# Altium schematic symbol library MCU_Microchip_SAME.SchLib: 16 symbols
Pins are listed as number, name and electrical type; pins without a type are passive.

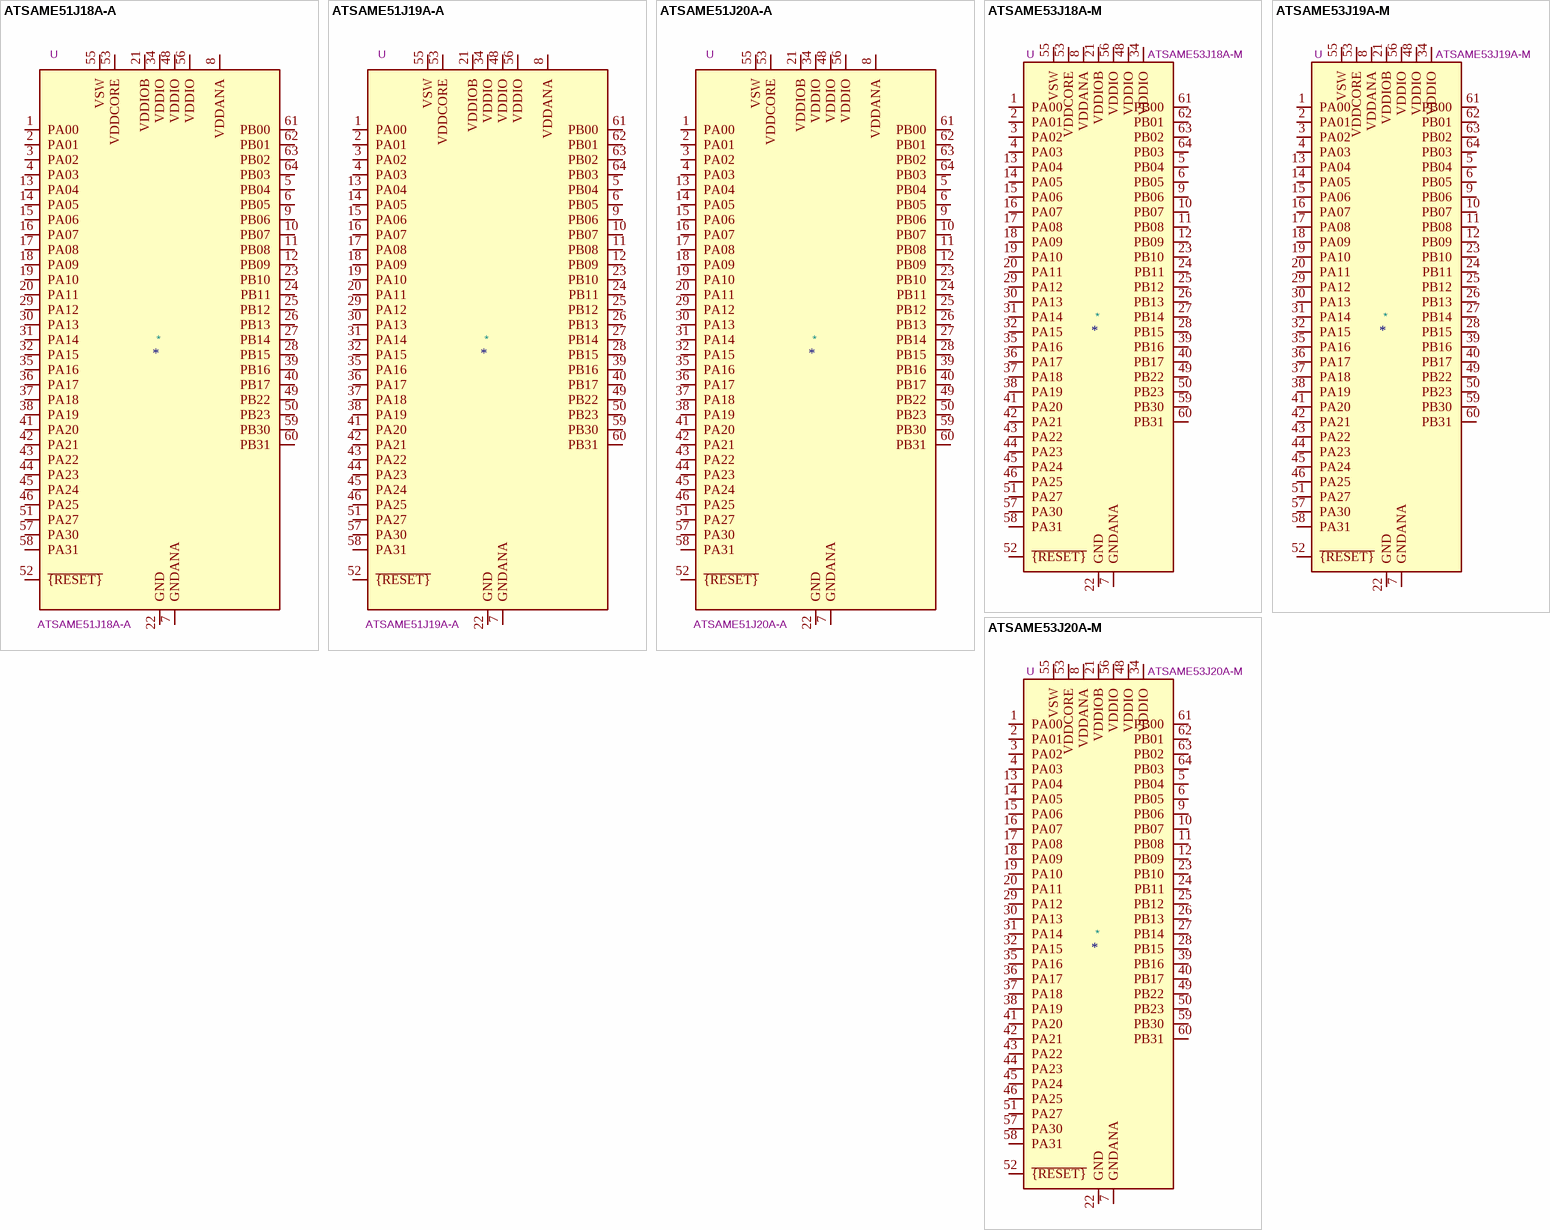
[diagram p0: symbols ATSAME51J18A-A to ATSAME53J20A-M]

## ATSAME51J18A-A
designator *  value ATSAME51J18A-A  Reference: U
ki_keywords: 32-bit ARM Cortex-M4F MCU Microcontroller; ki_description: SAM E51 Microchip SMART ARM Cortex-M4F-based MCU, 256K Flash, 128K SRAM, TQFP-64; ki_fp_filters: TQFP*10x10mm*P0.5mm*; Footprint: Package_QFP:TQFP-64_10x10mm_P0.5mm; Datasheet: http://ww1.microchip.com/downloads/en/DeviceDoc/60001507E.pdf
pins: 1 PA00, 2 PA01, 3 PA02, 4 PA03, 5 PB04, 6 PB05, 7 GNDANA, 8 VDDANA, 9 PB06, 10 PB07, 11 PB08, 12 PB09, 13 PA04, 14 PA05, 15 PA06, 16 PA07, 17 PA08, 18 PA09, 19 PA10, 20 PA11, 21 VDDIOB, 22 GND, 23 PB10, 24 PB11, 25 PB12, 26 PB13, 27 PB14, 28 PB15, 29 PA12, 30 PA13, 31 PA14, 32 PA15, 33 GND hidden, 34 VDDIO, 35 PA16, 36 PA17, 37 PA18, 38 PA19, 39 PB16, 40 PB17, 41 PA20, 42 PA21, 43 PA22, 44 PA23, 45 PA24, 46 PA25, 47 GND hidden, 48 VDDIO, 49 PB22, 50 PB23, 51 PA27, 52 ~{{RESET}}, 53 VDDCORE, 54 GND hidden, 55 VSW, 56 VDDIO, 57 PA30, 58 PA31, 59 PB30, 60 PB31, 61 PB00, 62 PB01, 63 PB02, 64 PB03

## ATSAME51J19A-A
designator *  value ATSAME51J19A-A  Reference: U
ki_keywords: 32-bit ARM Cortex-M4F MCU Microcontroller; ki_description: SAM E51 Microchip SMART ARM Cortex-M4F-based MCU, 512K Flash, 192K SRAM, TQFP-64; ki_fp_filters: TQFP*10x10mm*P0.5mm*; Footprint: Package_QFP:TQFP-64_10x10mm_P0.5mm; Datasheet: http://ww1.microchip.com/downloads/en/DeviceDoc/60001507E.pdf
pins: 1 PA00, 2 PA01, 3 PA02, 4 PA03, 5 PB04, 6 PB05, 7 GNDANA, 8 VDDANA, 9 PB06, 10 PB07, 11 PB08, 12 PB09, 13 PA04, 14 PA05, 15 PA06, 16 PA07, 17 PA08, 18 PA09, 19 PA10, 20 PA11, 21 VDDIOB, 22 GND, 23 PB10, 24 PB11, 25 PB12, 26 PB13, 27 PB14, 28 PB15, 29 PA12, 30 PA13, 31 PA14, 32 PA15, 33 GND hidden, 34 VDDIO, 35 PA16, 36 PA17, 37 PA18, 38 PA19, 39 PB16, 40 PB17, 41 PA20, 42 PA21, 43 PA22, 44 PA23, 45 PA24, 46 PA25, 47 GND hidden, 48 VDDIO, 49 PB22, 50 PB23, 51 PA27, 52 ~{{RESET}}, 53 VDDCORE, 54 GND hidden, 55 VSW, 56 VDDIO, 57 PA30, 58 PA31, 59 PB30, 60 PB31, 61 PB00, 62 PB01, 63 PB02, 64 PB03

## ATSAME51J20A-A
designator *  value ATSAME51J20A-A  Reference: U
ki_keywords: 32-bit ARM Cortex-M4F MCU Microcontroller; ki_description: SAM E51 Microchip SMART ARM Cortex-M4F-based MCU, 1024K Flash, 256K SRAM, TQFP-64; ki_fp_filters: TQFP*10x10mm*P0.5mm*; Footprint: Package_QFP:TQFP-64_10x10mm_P0.5mm; Datasheet: http://ww1.microchip.com/downloads/en/DeviceDoc/60001507E.pdf
pins: 1 PA00, 2 PA01, 3 PA02, 4 PA03, 5 PB04, 6 PB05, 7 GNDANA, 8 VDDANA, 9 PB06, 10 PB07, 11 PB08, 12 PB09, 13 PA04, 14 PA05, 15 PA06, 16 PA07, 17 PA08, 18 PA09, 19 PA10, 20 PA11, 21 VDDIOB, 22 GND, 23 PB10, 24 PB11, 25 PB12, 26 PB13, 27 PB14, 28 PB15, 29 PA12, 30 PA13, 31 PA14, 32 PA15, 33 GND hidden, 34 VDDIO, 35 PA16, 36 PA17, 37 PA18, 38 PA19, 39 PB16, 40 PB17, 41 PA20, 42 PA21, 43 PA22, 44 PA23, 45 PA24, 46 PA25, 47 GND hidden, 48 VDDIO, 49 PB22, 50 PB23, 51 PA27, 52 ~{{RESET}}, 53 VDDCORE, 54 GND hidden, 55 VSW, 56 VDDIO, 57 PA30, 58 PA31, 59 PB30, 60 PB31, 61 PB00, 62 PB01, 63 PB02, 64 PB03

## ATSAME53J18A-M
designator *  value ATSAME53J18A-M  Reference: U
ki_keywords: 32-bit ARM Cortex-M4F MCU Microcontroller; ki_description: SAM E53 Microchip SMART ARM Cortex-M4F based MCU, 256K Flash, 128K SRAM, QFN-64; ki_fp_filters: QFN*1EP*9x9mm*P0.5mm*; Footprint: Package_DFN_QFN:QFN-64-1EP_9x9mm_P0.5mm_EP4.7x4.7mm; Datasheet: http://ww1.microchip.com/downloads/en/DeviceDoc/60001507E.pdf
pins: 1 PA00, 2 PA01, 3 PA02, 4 PA03, 5 PB04, 6 PB05, 7 GNDANA, 8 VDDANA, 9 PB06, 10 PB07, 11 PB08, 12 PB09, 13 PA04, 14 PA05, 15 PA06, 16 PA07, 17 PA08, 18 PA09, 19 PA10, 20 PA11, 21 VDDIOB, 22 GND, 23 PB10, 24 PB11, 25 PB12, 26 PB13, 27 PB14, 28 PB15, 29 PA12, 30 PA13, 31 PA14, 32 PA15, 33 GND hidden, 34 VDDIO, 35 PA16, 36 PA17, 37 PA18, 38 PA19, 39 PB16, 40 PB17, 41 PA20, 42 PA21, 43 PA22, 44 PA23, 45 PA24, 46 PA25, 47 GND hidden, 48 VDDIO, 49 PB22, 50 PB23, 51 PA27, 52 ~{{RESET}}, 53 VDDCORE, 54 GND hidden, 55 VSW, 56 VDDIO, 57 PA30, 58 PA31, 59 PB30, 60 PB31, 61 PB00, 62 PB01, 63 PB02, 64 PB03, 65 GND hidden

## ATSAME53J19A-M
designator *  value ATSAME53J19A-M  Reference: U
ki_keywords: 32-bit ARM Cortex-M4F MCU Microcontroller; ki_description: SAM E53 Microchip SMART ARM Cortex-M4F based MCU, 512K Flash, 128K SRAM, QFN-64; ki_fp_filters: QFN*1EP*9x9mm*P0.5mm*; Footprint: Package_DFN_QFN:QFN-64-1EP_9x9mm_P0.5mm_EP4.7x4.7mm; Datasheet: http://ww1.microchip.com/downloads/en/DeviceDoc/60001507E.pdf
pins: 1 PA00, 2 PA01, 3 PA02, 4 PA03, 5 PB04, 6 PB05, 7 GNDANA, 8 VDDANA, 9 PB06, 10 PB07, 11 PB08, 12 PB09, 13 PA04, 14 PA05, 15 PA06, 16 PA07, 17 PA08, 18 PA09, 19 PA10, 20 PA11, 21 VDDIOB, 22 GND, 23 PB10, 24 PB11, 25 PB12, 26 PB13, 27 PB14, 28 PB15, 29 PA12, 30 PA13, 31 PA14, 32 PA15, 33 GND hidden, 34 VDDIO, 35 PA16, 36 PA17, 37 PA18, 38 PA19, 39 PB16, 40 PB17, 41 PA20, 42 PA21, 43 PA22, 44 PA23, 45 PA24, 46 PA25, 47 GND hidden, 48 VDDIO, 49 PB22, 50 PB23, 51 PA27, 52 ~{{RESET}}, 53 VDDCORE, 54 GND hidden, 55 VSW, 56 VDDIO, 57 PA30, 58 PA31, 59 PB30, 60 PB31, 61 PB00, 62 PB01, 63 PB02, 64 PB03, 65 GND hidden

## ATSAME53J20A-M
designator *  value ATSAME53J20A-M  Reference: U
ki_keywords: 32-bit ARM Cortex-M4F MCU Microcontroller; ki_description: SAM E53 Microchip SMART ARM Cortex-M4F based MCU, 1024K Flash, 128K SRAM, QFN-64; ki_fp_filters: QFN*1EP*9x9mm*P0.5mm*; Footprint: Package_DFN_QFN:QFN-64-1EP_9x9mm_P0.5mm_EP4.7x4.7mm; Datasheet: http://ww1.microchip.com/downloads/en/DeviceDoc/60001507E.pdf
pins: 1 PA00, 2 PA01, 3 PA02, 4 PA03, 5 PB04, 6 PB05, 7 GNDANA, 8 VDDANA, 9 PB06, 10 PB07, 11 PB08, 12 PB09, 13 PA04, 14 PA05, 15 PA06, 16 PA07, 17 PA08, 18 PA09, 19 PA10, 20 PA11, 21 VDDIOB, 22 GND, 23 PB10, 24 PB11, 25 PB12, 26 PB13, 27 PB14, 28 PB15, 29 PA12, 30 PA13, 31 PA14, 32 PA15, 33 GND hidden, 34 VDDIO, 35 PA16, 36 PA17, 37 PA18, 38 PA19, 39 PB16, 40 PB17, 41 PA20, 42 PA21, 43 PA22, 44 PA23, 45 PA24, 46 PA25, 47 GND hidden, 48 VDDIO, 49 PB22, 50 PB23, 51 PA27, 52 ~{{RESET}}, 53 VDDCORE, 54 GND hidden, 55 VSW, 56 VDDIO, 57 PA30, 58 PA31, 59 PB30, 60 PB31, 61 PB00, 62 PB01, 63 PB02, 64 PB03, 65 GND hidden

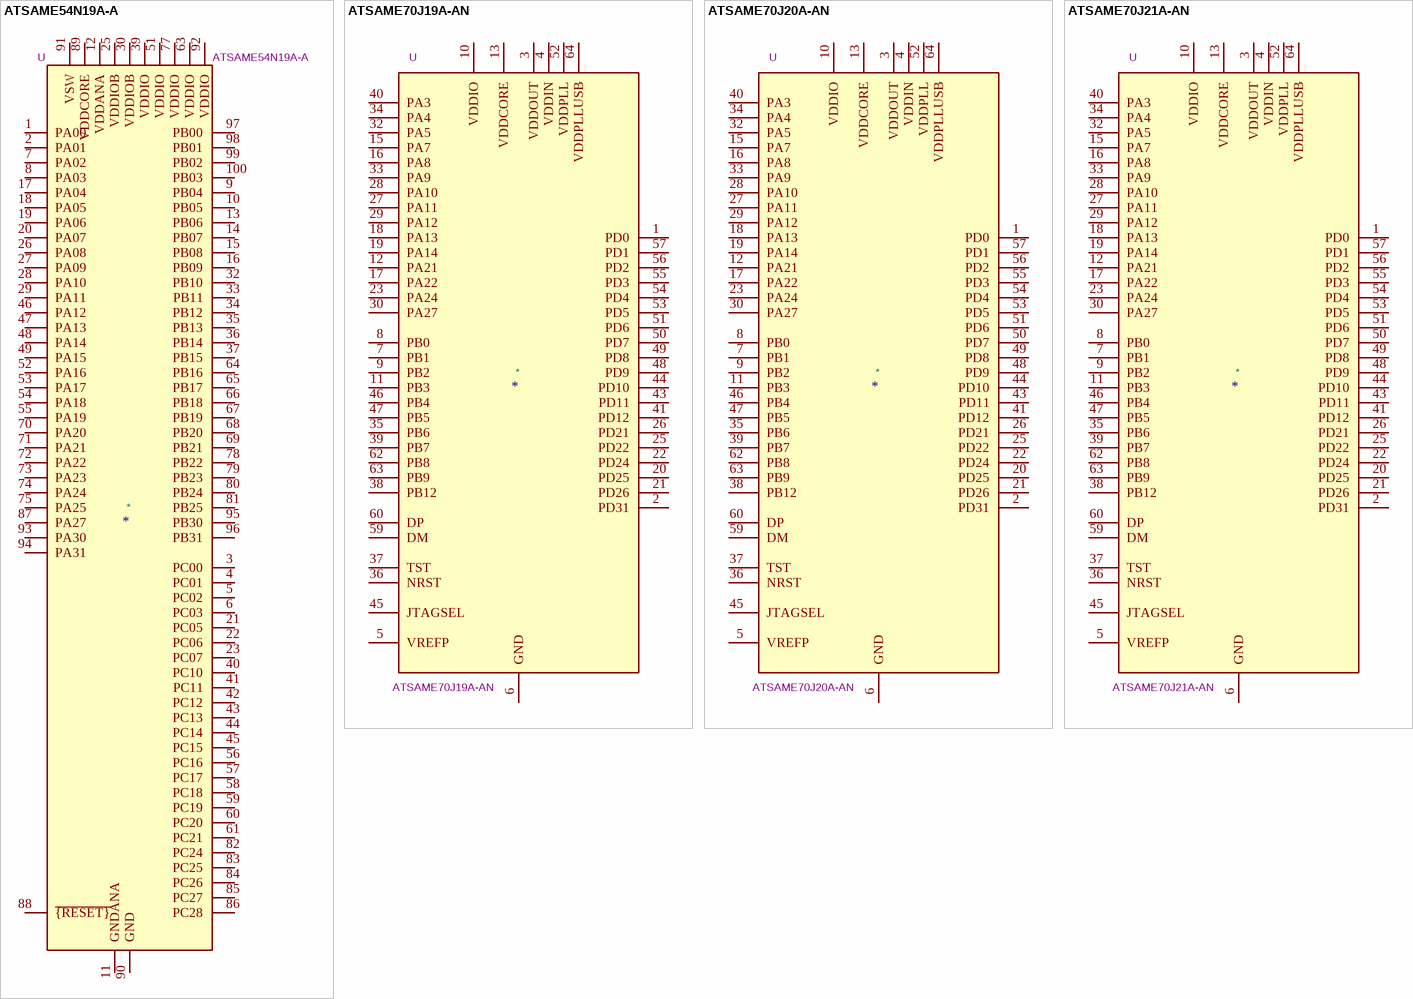
[diagram p1: symbols ATSAME54N19A-A to ATSAME70J21A-AN]

## ATSAME54N19A-A
designator *  value ATSAME54N19A-A  Reference: U
ki_keywords: 32-bit ARM Cortex-M4F MCU Microcontroller; ki_description: SAM E54 Microchip SMART ARM Cortex-M4F based MCU, 512K Flash, 192K SRAM, TQFP-100; ki_fp_filters: TQFP*14x14mm*P0.5mm*; Footprint: Package_QFP:TQFP-100_14x14mm_P0.5mm; Datasheet: http://ww1.microchip.com/downloads/en/DeviceDoc/60001507E.pdf
pins: 1 PA00, 2 PA01, 3 PC00, 4 PC01, 5 PC02, 6 PC03, 7 PA02, 8 PA03, 9 PB04, 10 PB05, 11 GNDANA, 12 VDDANA, 13 PB06, 14 PB07, 15 PB08, 16 PB09, 17 PA04, 18 PA05, 19 PA06, 20 PA07, 21 PC05, 22 PC06, 23 PC07, 24 GND hidden, 25 VDDIOB, 26 PA08, 27 PA09, 28 PA10, 29 PA11, 30 VDDIOB, 31 GND hidden, 32 PB10, 33 PB11, 34 PB12, 35 PB13, 36 PB14, 37 PB15, 38 GND hidden, 39 VDDIO, 40 PC10, 41 PC11, 42 PC12, 43 PC13, 44 PC14, 45 PC15, 46 PA12, 47 PA13, 48 PA14, 49 PA15, 50 GND hidden, 51 VDDIO, 52 PA16, 53 PA17, 54 PA18, 55 PA19, 56 PC16, 57 PC17, 58 PC18, 59 PC19, 60 PC20, 61 PC21, 62 GND hidden, 63 VDDIO, 64 PB16, 65 PB17, 66 PB18, 67 PB19, 68 PB20, 69 PB21, 70 PA20, 71 PA21, 72 PA22, 73 PA23, 74 PA24, 75 PA25, 76 GND hidden, 77 VDDIO, 78 PB22, 79 PB23, 80 PB24, 81 PB25, 82 PC24, 83 PC25, 84 PC26, 85 PC27, 86 PC28, 87 PA27, 88 ~{{RESET}}, 89 VDDCORE, 90 GND, 91 VSW, 92 VDDIO, 93 PA30, 94 PA31, 95 PB30, 96 PB31, 97 PB00, 98 PB01, 99 PB02, 100 PB03

## ATSAME70J19A-AN
designator *  value ATSAME70J19A-AN  Reference: U
ki_keywords: 32-bit ARM Cortex-M7 MCU Microcontroller; ki_description: SAM E70 Microchip SMART ARM Cortex-M7-based MCU, 2048K Flash, 384K SRAM, LQFP64; ki_fp_filters: LQFP*10x10mm*P0.5mm*; Footprint: Package_QFP:LQFP-64_10x10mm_P0.5mm; Datasheet: http://ww1.microchip.com/downloads/en/DeviceDoc/SAM-E70-S70-V70-V71-Family-Data-Sheet-DS60001527D.pdf
pins: 1 PD0, 2 PD31, 3 VDDOUT, 4 VDDIN, 5 VREFP, 6 GND, 7 PB1, 8 PB0, 9 PB2, 10 VDDIO, 11 PB3, 12 PA21, 13 VDDCORE, 14 GND hidden, 15 PA7, 16 PA8, 17 PA22, 18 PA13, 19 PA14, 20 PD25, 21 PD26, 22 PD24, 23 PA24, 24 VDDCORE hidden, 25 PD22, 26 PD21, 27 PA11, 28 PA10, 29 PA12, 30 PA27, 31 GND hidden, 32 PA5, 33 PA9, 34 PA4, 35 PB6, 36 NRST, 37 TST, 38 PB12, 39 PB7, 40 PA3, 41 PD12, 42 VDDIO hidden, 43 PD11, 44 PD10, 45 JTAGSEL, 46 PB4, 47 PB5, 48 PD9, 49 PD8, 50 PD7, 51 PD6, 52 VDDPLL, 53 PD5, 54 PD4, 55 PD3, 56 PD2, 57 PD1, 58 VDDIO hidden, 59 DM, 60 DP, 61 VDDCORE hidden, 62 PB8, 63 PB9, 64 VDDPLLUSB

## ATSAME70J20A-AN
designator *  value ATSAME70J20A-AN  Reference: U
ki_keywords: 32-bit ARM Cortex-M7 MCU Microcontroller; ki_description: SAM E70 Microchip SMART ARM Cortex-M7-based MCU, 512K Flash, 384K SRAM, LQFP64; ki_fp_filters: LQFP*10x10mm*P0.5mm*; Footprint: Package_QFP:LQFP-64_10x10mm_P0.5mm; Datasheet: http://ww1.microchip.com/downloads/en/DeviceDoc/SAM-E70-S70-V70-V71-Family-Data-Sheet-DS60001527D.pdf
pins: 1 PD0, 2 PD31, 3 VDDOUT, 4 VDDIN, 5 VREFP, 6 GND, 7 PB1, 8 PB0, 9 PB2, 10 VDDIO, 11 PB3, 12 PA21, 13 VDDCORE, 14 GND hidden, 15 PA7, 16 PA8, 17 PA22, 18 PA13, 19 PA14, 20 PD25, 21 PD26, 22 PD24, 23 PA24, 24 VDDCORE hidden, 25 PD22, 26 PD21, 27 PA11, 28 PA10, 29 PA12, 30 PA27, 31 GND hidden, 32 PA5, 33 PA9, 34 PA4, 35 PB6, 36 NRST, 37 TST, 38 PB12, 39 PB7, 40 PA3, 41 PD12, 42 VDDIO hidden, 43 PD11, 44 PD10, 45 JTAGSEL, 46 PB4, 47 PB5, 48 PD9, 49 PD8, 50 PD7, 51 PD6, 52 VDDPLL, 53 PD5, 54 PD4, 55 PD3, 56 PD2, 57 PD1, 58 VDDIO hidden, 59 DM, 60 DP, 61 VDDCORE hidden, 62 PB8, 63 PB9, 64 VDDPLLUSB

## ATSAME70J21A-AN
designator *  value ATSAME70J21A-AN  Reference: U
ki_keywords: 32-bit ARM Cortex-M7 MCU Microcontroller; ki_description: SAM E70 Microchip SMART ARM Cortex-M7-based MCU, 2048K Flash, 384K SRAM, LQFP64; ki_fp_filters: LQFP*10x10mm*P0.5mm*; Footprint: Package_QFP:LQFP-64_10x10mm_P0.5mm; Datasheet: http://ww1.microchip.com/downloads/en/DeviceDoc/SAM-E70-S70-V70-V71-Family-Data-Sheet-DS60001527D.pdf
pins: 1 PD0, 2 PD31, 3 VDDOUT, 4 VDDIN, 5 VREFP, 6 GND, 7 PB1, 8 PB0, 9 PB2, 10 VDDIO, 11 PB3, 12 PA21, 13 VDDCORE, 14 GND hidden, 15 PA7, 16 PA8, 17 PA22, 18 PA13, 19 PA14, 20 PD25, 21 PD26, 22 PD24, 23 PA24, 24 VDDCORE hidden, 25 PD22, 26 PD21, 27 PA11, 28 PA10, 29 PA12, 30 PA27, 31 GND hidden, 32 PA5, 33 PA9, 34 PA4, 35 PB6, 36 NRST, 37 TST, 38 PB12, 39 PB7, 40 PA3, 41 PD12, 42 VDDIO hidden, 43 PD11, 44 PD10, 45 JTAGSEL, 46 PB4, 47 PB5, 48 PD9, 49 PD8, 50 PD7, 51 PD6, 52 VDDPLL, 53 PD5, 54 PD4, 55 PD3, 56 PD2, 57 PD1, 58 VDDIO hidden, 59 DM, 60 DP, 61 VDDCORE hidden, 62 PB8, 63 PB9, 64 VDDPLLUSB

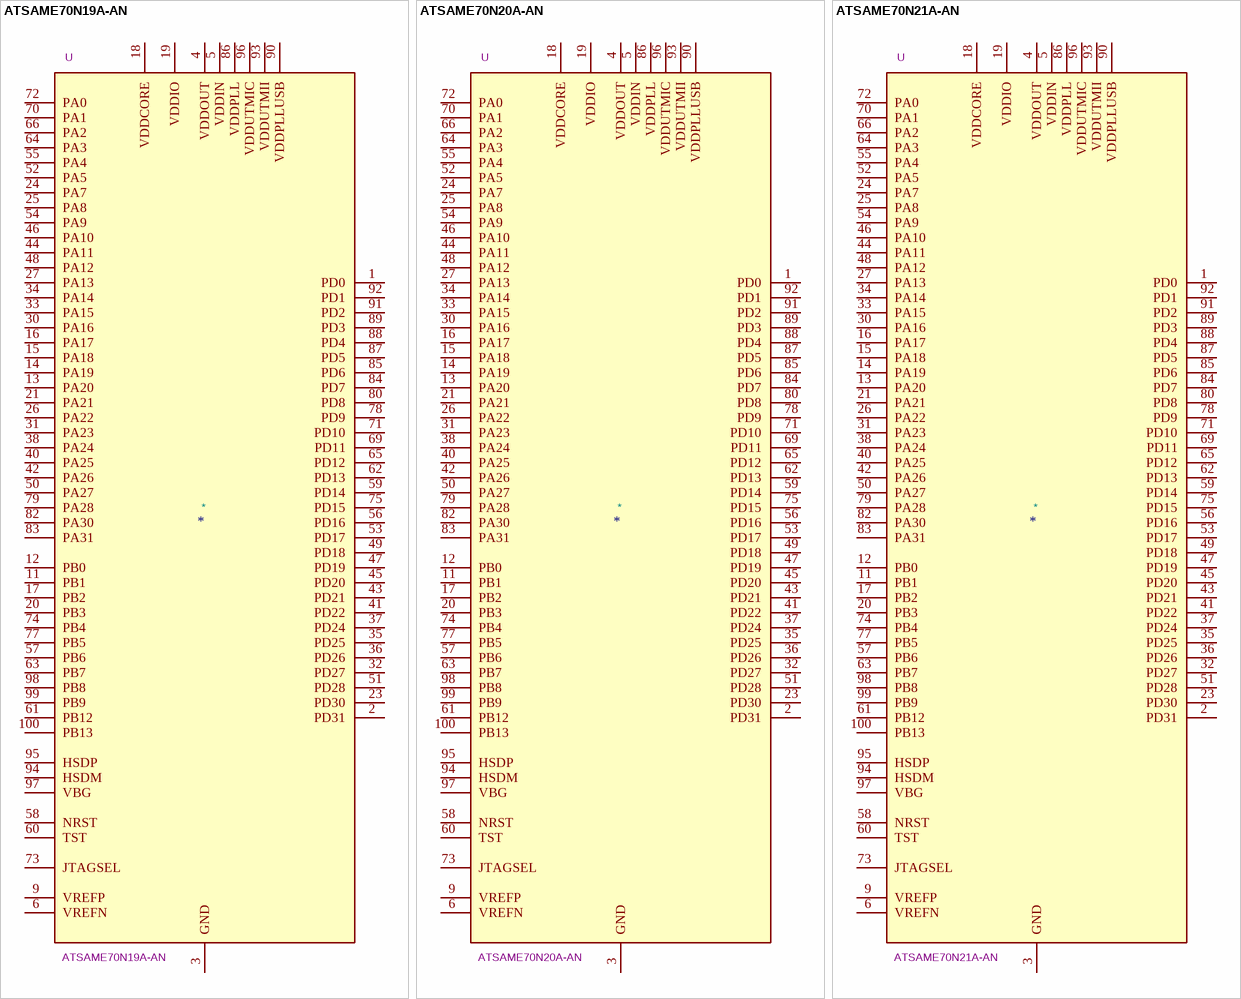
[diagram p2: symbols ATSAME70N19A-AN to ATSAME70N21A-AN]

## ATSAME70N19A-AN
designator *  value ATSAME70N19A-AN  Reference: U
ki_keywords: 32-bit ARM Cortex-M7 MCU Microcontroller; ki_description: SAM E70 Microchip SMART ARM Cortex-M7-based MCU, 512K Flash, 256K SRAM, LQFP100; ki_fp_filters: LQFP*14x14mm*P0.5mm*; Footprint: Package_QFP:LQFP-100_14x14mm_P0.5mm; Datasheet: http://ww1.microchip.com/downloads/en/DeviceDoc/SAM-E70-S70-V70-V71-Family-Data-Sheet-DS60001527D.pdf
pins: 1 PD0, 2 PD31, 3 GND, 4 VDDOUT, 5 VDDIN, 6 VREFN, 7 GND hidden, 8 GND hidden, 9 VREFP, 10 GND hidden, 11 PB1, 12 PB0, 13 PA20, 14 PA19, 15 PA18, 16 PA17, 17 PB2, 18 VDDCORE, 19 VDDIO, 20 PB3, 21 PA21, 22 VDDCORE hidden, 23 PD30, 24 PA7, 25 PA8, 26 PA22, 27 PA13, 28 VDDIO hidden, 29 GND hidden, 30 PA16, 31 PA23, 32 PD27, 33 PA15, 34 PA14, 35 PD25, 36 PD26, 37 PD24, 38 PA24, 39 VDDCORE hidden, 40 PA25, 41 PD22, 42 PA26, 43 PD21, 44 PA11, 45 PD20, 46 PA10, 47 PD19, 48 PA12, 49 PD18, 50 PA27, 51 PD28, 52 PA5, 53 PD17, 54 PA9, 55 PA4, 56 PD16, 57 PB6, 58 NRST, 59 PD14, 60 TST, 61 PB12, 62 PD13, 63 PB7, 64 PA3, 65 PD12, 66 PA2, 67 GND hidden, 68 VDDIO hidden, 69 PD11, 70 PA1, 71 PD10, 72 PA0, 73 JTAGSEL, 74 PB4, 75 PD15, 76 VDDCORE hidden, 77 PB5, 78 PD9, 79 PA28, 80 PD8, 81 VDDIO hidden, 82 PA30, 83 PA31, 84 PD7, 85 PD6, 86 VDDPLL, 87 PD5, 88 PD4, 89 PD3, 90 VDDPLLUSB, 91 PD2, 92 PD1, 93 VDDUTMII, 94 HSDM, 95 HSDP, 96 VDDUTMIC, 97 VBG, 98 PB8, 99 PB9, 100 PB13

## ATSAME70N20A-AN
designator *  value ATSAME70N20A-AN  Reference: U
ki_keywords: 32-bit ARM Cortex-M7 MCU Microcontroller; ki_description: SAM E70 Microchip SMART ARM Cortex-M7-based MCU, 1024K Flash, 384K SRAM, LQFP100; ki_fp_filters: LQFP*14x14mm*P0.5mm*; Footprint: Package_QFP:LQFP-100_14x14mm_P0.5mm; Datasheet: http://ww1.microchip.com/downloads/en/DeviceDoc/SAM-E70-S70-V70-V71-Family-Data-Sheet-DS60001527D.pdf
pins: 1 PD0, 2 PD31, 3 GND, 4 VDDOUT, 5 VDDIN, 6 VREFN, 7 GND hidden, 8 GND hidden, 9 VREFP, 10 GND hidden, 11 PB1, 12 PB0, 13 PA20, 14 PA19, 15 PA18, 16 PA17, 17 PB2, 18 VDDCORE, 19 VDDIO, 20 PB3, 21 PA21, 22 VDDCORE hidden, 23 PD30, 24 PA7, 25 PA8, 26 PA22, 27 PA13, 28 VDDIO hidden, 29 GND hidden, 30 PA16, 31 PA23, 32 PD27, 33 PA15, 34 PA14, 35 PD25, 36 PD26, 37 PD24, 38 PA24, 39 VDDCORE hidden, 40 PA25, 41 PD22, 42 PA26, 43 PD21, 44 PA11, 45 PD20, 46 PA10, 47 PD19, 48 PA12, 49 PD18, 50 PA27, 51 PD28, 52 PA5, 53 PD17, 54 PA9, 55 PA4, 56 PD16, 57 PB6, 58 NRST, 59 PD14, 60 TST, 61 PB12, 62 PD13, 63 PB7, 64 PA3, 65 PD12, 66 PA2, 67 GND hidden, 68 VDDIO hidden, 69 PD11, 70 PA1, 71 PD10, 72 PA0, 73 JTAGSEL, 74 PB4, 75 PD15, 76 VDDCORE hidden, 77 PB5, 78 PD9, 79 PA28, 80 PD8, 81 VDDIO hidden, 82 PA30, 83 PA31, 84 PD7, 85 PD6, 86 VDDPLL, 87 PD5, 88 PD4, 89 PD3, 90 VDDPLLUSB, 91 PD2, 92 PD1, 93 VDDUTMII, 94 HSDM, 95 HSDP, 96 VDDUTMIC, 97 VBG, 98 PB8, 99 PB9, 100 PB13

## ATSAME70N21A-AN
designator *  value ATSAME70N21A-AN  Reference: U
ki_keywords: 32-bit ARM Cortex-M7 MCU Microcontroller; ki_description: SAM E70 Microchip SMART ARM Cortex-M7-based MCU, 2048K Flash, 384K SRAM, LQFP100; ki_fp_filters: LQFP*14x14mm*P0.5mm*; Footprint: Package_QFP:LQFP-100_14x14mm_P0.5mm; Datasheet: http://ww1.microchip.com/downloads/en/DeviceDoc/SAM-E70-S70-V70-V71-Family-Data-Sheet-DS60001527D.pdf
pins: 1 PD0, 2 PD31, 3 GND, 4 VDDOUT, 5 VDDIN, 6 VREFN, 7 GND hidden, 8 GND hidden, 9 VREFP, 10 GND hidden, 11 PB1, 12 PB0, 13 PA20, 14 PA19, 15 PA18, 16 PA17, 17 PB2, 18 VDDCORE, 19 VDDIO, 20 PB3, 21 PA21, 22 VDDCORE hidden, 23 PD30, 24 PA7, 25 PA8, 26 PA22, 27 PA13, 28 VDDIO hidden, 29 GND hidden, 30 PA16, 31 PA23, 32 PD27, 33 PA15, 34 PA14, 35 PD25, 36 PD26, 37 PD24, 38 PA24, 39 VDDCORE hidden, 40 PA25, 41 PD22, 42 PA26, 43 PD21, 44 PA11, 45 PD20, 46 PA10, 47 PD19, 48 PA12, 49 PD18, 50 PA27, 51 PD28, 52 PA5, 53 PD17, 54 PA9, 55 PA4, 56 PD16, 57 PB6, 58 NRST, 59 PD14, 60 TST, 61 PB12, 62 PD13, 63 PB7, 64 PA3, 65 PD12, 66 PA2, 67 GND hidden, 68 VDDIO hidden, 69 PD11, 70 PA1, 71 PD10, 72 PA0, 73 JTAGSEL, 74 PB4, 75 PD15, 76 VDDCORE hidden, 77 PB5, 78 PD9, 79 PA28, 80 PD8, 81 VDDIO hidden, 82 PA30, 83 PA31, 84 PD7, 85 PD6, 86 VDDPLL, 87 PD5, 88 PD4, 89 PD3, 90 VDDPLLUSB, 91 PD2, 92 PD1, 93 VDDUTMII, 94 HSDM, 95 HSDP, 96 VDDUTMIC, 97 VBG, 98 PB8, 99 PB9, 100 PB13

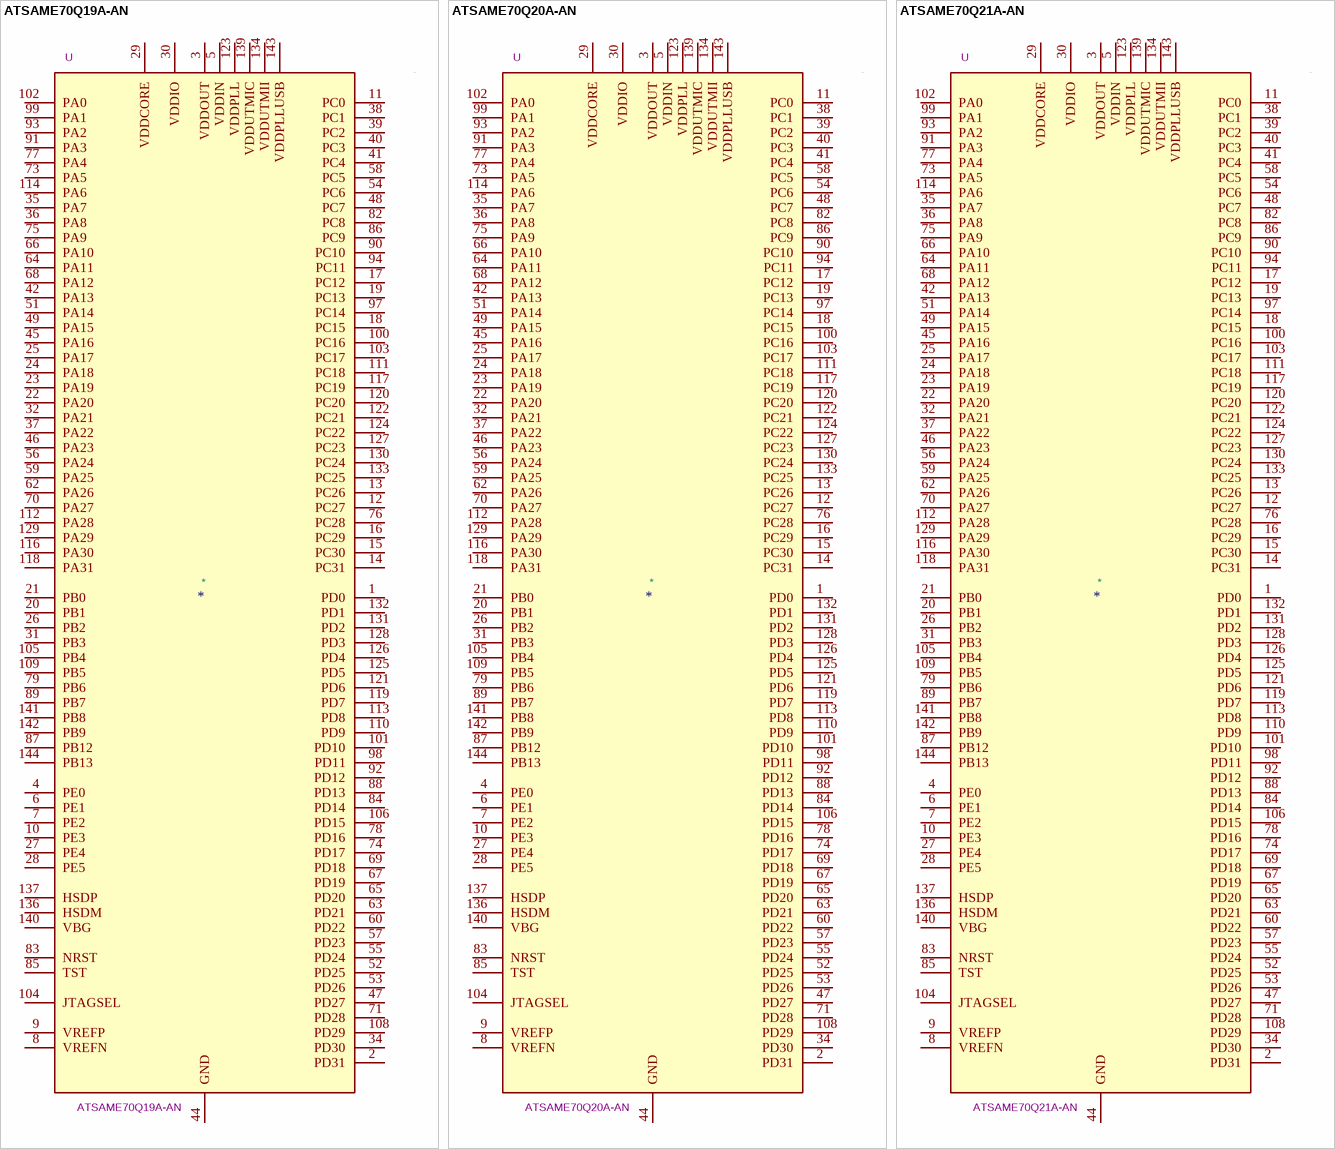
[diagram p3: symbols ATSAME70Q19A-AN to ATSAME70Q21A-AN]

## ATSAME70Q19A-AN
designator *  value ATSAME70Q19A-AN  Reference: U
ki_keywords: 32-bit ARM Cortex-M7 MCU Microcontroller; ki_description: SAM E70 Microchip SMART ARM Cortex-M7-based MCU, 512K Flash, 256K SRAM, LQFP144; ki_fp_filters: LQFP*20x20mm*P0.5mm*; Footprint: Package_QFP:LQFP-144_20x20mm_P0.5mm; Datasheet: http://ww1.microchip.com/downloads/en/DeviceDoc/SAM-E70-S70-V70-V71-Family-Data-Sheet-DS60001527D.pdf
pins: 1 PD0, 2 PD31, 3 VDDOUT, 4 PE0, 5 VDDIN, 6 PE1, 7 PE2, 8 VREFN, 9 VREFP, 10 PE3, 11 PC0, 12 PC27, 13 PC26, 14 PC31, 15 PC30, 16 PC29, 17 PC12, 18 PC15, 19 PC13, 20 PB1, 21 PB0, 22 PA20, 23 PA19, 24 PA18, 25 PA17, 26 PB2, 27 PE4, 28 PE5, 29 VDDCORE, 30 VDDIO, 31 PB3, 32 PA21, 33 VDDCORE hidden, 34 PD30, 35 PA7, 36 PA8, 37 PA22, 38 PC1, 39 PC2, 40 PC3, 41 PC4, 42 PA13, 43 VDDIO hidden, 44 GND, 45 PA16, 46 PA23, 47 PD27, 48 PC7, 49 PA15, 50 VDDCORE hidden, 51 PA14, 52 PD25, 53 PD26, 54 PC6, 55 PD24, 56 PA24, 57 PD23, 58 PC5, 59 PA25, 60 PD22, 61 GND hidden, 62 PA26, 63 PD21, 64 PA11, 65 PD20, 66 PA10, 67 PD19, 68 PA12, 69 PD18, 70 PA27, 71 PD28, 72 VDDIO hidden, 73 PA5, 74 PD17, 75 PA9, 76 PC28, 77 PA4, 78 PD16, 79 PB6, 80 VDDIO hidden, 81 VDDCORE hidden, 82 PC8, 83 NRST, 84 PD14, 85 TST, 86 PC9, 87 PB12, 88 PD13, 89 PB7, 90 PC10, 91 PA3, 92 PD12, 93 PA2, 94 PC11, 95 GND hidden, 96 VDDIO hidden, 97 PC14, 98 PD11, 99 PA1, 100 PC16, 101 PD10, 102 PA0, 103 PC17, 104 JTAGSEL, 105 PB4, 106 PD15, 107 VDDCORE hidden, 108 PD29, 109 PB5, 110 PD9, 111 PC18, 112 PA28, 113 PD8, 114 PA6, 115 GND hidden, 116 PA30, 117 PC19, 118 PA31, 119 PD7, 120 PC20, 121 PD6, 122 PC21, 123 VDDPLL, 124 PC22, 125 PD5, 126 PD4, 127 PC23, 128 PD3, 129 PA29, 130 PC24, 131 PD2, 132 PD1, 133 PC25, 134 VDDUTMII, 135 GND hidden, 136 HSDM, 137 HSDP, 138 GND hidden, 139 VDDUTMIC, 140 VBG, 141 PB8, 142 PB9, 143 VDDPLLUSB, 144 PB13

## ATSAME70Q20A-AN
designator *  value ATSAME70Q20A-AN  Reference: U
ki_keywords: 32-bit ARM Cortex-M7 MCU Microcontroller; ki_description: SAM E70 Microchip SMART ARM Cortex-M7-based MCU, 1024K Flash, 384K SRAM, LQFP144; ki_fp_filters: LQFP*20x20mm*P0.5mm*; Footprint: Package_QFP:LQFP-144_20x20mm_P0.5mm; Datasheet: http://ww1.microchip.com/downloads/en/DeviceDoc/SAM-E70-S70-V70-V71-Family-Data-Sheet-DS60001527D.pdf
pins: 1 PD0, 2 PD31, 3 VDDOUT, 4 PE0, 5 VDDIN, 6 PE1, 7 PE2, 8 VREFN, 9 VREFP, 10 PE3, 11 PC0, 12 PC27, 13 PC26, 14 PC31, 15 PC30, 16 PC29, 17 PC12, 18 PC15, 19 PC13, 20 PB1, 21 PB0, 22 PA20, 23 PA19, 24 PA18, 25 PA17, 26 PB2, 27 PE4, 28 PE5, 29 VDDCORE, 30 VDDIO, 31 PB3, 32 PA21, 33 VDDCORE hidden, 34 PD30, 35 PA7, 36 PA8, 37 PA22, 38 PC1, 39 PC2, 40 PC3, 41 PC4, 42 PA13, 43 VDDIO hidden, 44 GND, 45 PA16, 46 PA23, 47 PD27, 48 PC7, 49 PA15, 50 VDDCORE hidden, 51 PA14, 52 PD25, 53 PD26, 54 PC6, 55 PD24, 56 PA24, 57 PD23, 58 PC5, 59 PA25, 60 PD22, 61 GND hidden, 62 PA26, 63 PD21, 64 PA11, 65 PD20, 66 PA10, 67 PD19, 68 PA12, 69 PD18, 70 PA27, 71 PD28, 72 VDDIO hidden, 73 PA5, 74 PD17, 75 PA9, 76 PC28, 77 PA4, 78 PD16, 79 PB6, 80 VDDIO hidden, 81 VDDCORE hidden, 82 PC8, 83 NRST, 84 PD14, 85 TST, 86 PC9, 87 PB12, 88 PD13, 89 PB7, 90 PC10, 91 PA3, 92 PD12, 93 PA2, 94 PC11, 95 GND hidden, 96 VDDIO hidden, 97 PC14, 98 PD11, 99 PA1, 100 PC16, 101 PD10, 102 PA0, 103 PC17, 104 JTAGSEL, 105 PB4, 106 PD15, 107 VDDCORE hidden, 108 PD29, 109 PB5, 110 PD9, 111 PC18, 112 PA28, 113 PD8, 114 PA6, 115 GND hidden, 116 PA30, 117 PC19, 118 PA31, 119 PD7, 120 PC20, 121 PD6, 122 PC21, 123 VDDPLL, 124 PC22, 125 PD5, 126 PD4, 127 PC23, 128 PD3, 129 PA29, 130 PC24, 131 PD2, 132 PD1, 133 PC25, 134 VDDUTMII, 135 GND hidden, 136 HSDM, 137 HSDP, 138 GND hidden, 139 VDDUTMIC, 140 VBG, 141 PB8, 142 PB9, 143 VDDPLLUSB, 144 PB13

## ATSAME70Q21A-AN
designator *  value ATSAME70Q21A-AN  Reference: U
ki_keywords: 32-bit ARM Cortex-M7 MCU Microcontroller; ki_description: SAM E70 Microchip SMART ARM Cortex-M7-based MCU, 2048K Flash, 384K SRAM, LQFP144; ki_fp_filters: LQFP*20x20mm*P0.5mm*; Footprint: Package_QFP:LQFP-144_20x20mm_P0.5mm; Datasheet: http://ww1.microchip.com/downloads/en/DeviceDoc/SAM-E70-S70-V70-V71-Family-Data-Sheet-DS60001527D.pdf
pins: 1 PD0, 2 PD31, 3 VDDOUT, 4 PE0, 5 VDDIN, 6 PE1, 7 PE2, 8 VREFN, 9 VREFP, 10 PE3, 11 PC0, 12 PC27, 13 PC26, 14 PC31, 15 PC30, 16 PC29, 17 PC12, 18 PC15, 19 PC13, 20 PB1, 21 PB0, 22 PA20, 23 PA19, 24 PA18, 25 PA17, 26 PB2, 27 PE4, 28 PE5, 29 VDDCORE, 30 VDDIO, 31 PB3, 32 PA21, 33 VDDCORE hidden, 34 PD30, 35 PA7, 36 PA8, 37 PA22, 38 PC1, 39 PC2, 40 PC3, 41 PC4, 42 PA13, 43 VDDIO hidden, 44 GND, 45 PA16, 46 PA23, 47 PD27, 48 PC7, 49 PA15, 50 VDDCORE hidden, 51 PA14, 52 PD25, 53 PD26, 54 PC6, 55 PD24, 56 PA24, 57 PD23, 58 PC5, 59 PA25, 60 PD22, 61 GND hidden, 62 PA26, 63 PD21, 64 PA11, 65 PD20, 66 PA10, 67 PD19, 68 PA12, 69 PD18, 70 PA27, 71 PD28, 72 VDDIO hidden, 73 PA5, 74 PD17, 75 PA9, 76 PC28, 77 PA4, 78 PD16, 79 PB6, 80 VDDIO hidden, 81 VDDCORE hidden, 82 PC8, 83 NRST, 84 PD14, 85 TST, 86 PC9, 87 PB12, 88 PD13, 89 PB7, 90 PC10, 91 PA3, 92 PD12, 93 PA2, 94 PC11, 95 GND hidden, 96 VDDIO hidden, 97 PC14, 98 PD11, 99 PA1, 100 PC16, 101 PD10, 102 PA0, 103 PC17, 104 JTAGSEL, 105 PB4, 106 PD15, 107 VDDCORE hidden, 108 PD29, 109 PB5, 110 PD9, 111 PC18, 112 PA28, 113 PD8, 114 PA6, 115 GND hidden, 116 PA30, 117 PC19, 118 PA31, 119 PD7, 120 PC20, 121 PD6, 122 PC21, 123 VDDPLL, 124 PC22, 125 PD5, 126 PD4, 127 PC23, 128 PD3, 129 PA29, 130 PC24, 131 PD2, 132 PD1, 133 PC25, 134 VDDUTMII, 135 GND hidden, 136 HSDM, 137 HSDP, 138 GND hidden, 139 VDDUTMIC, 140 VBG, 141 PB8, 142 PB9, 143 VDDPLLUSB, 144 PB13